# EAGLE library part E75-2G4M20S (library E75-2G4M20S)
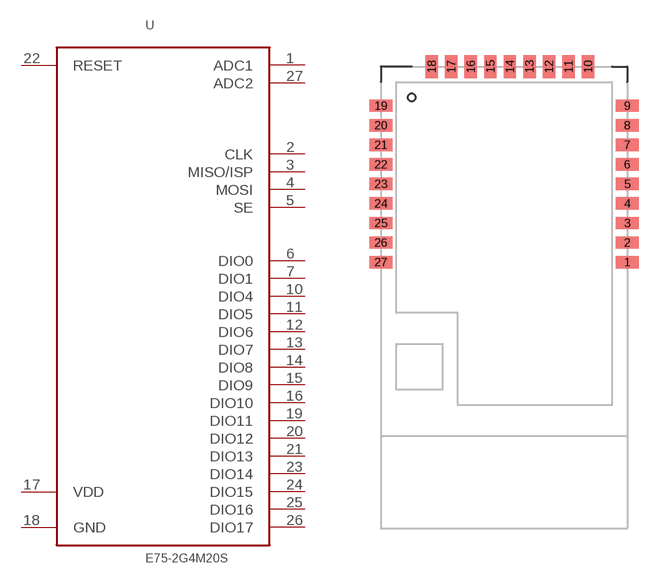
[diagram p0: symbol with the pads of E75-2G4M20S; footprint E75-2G4M20S]

Designator prefix U

## E75-2G4M20S  [E75-2G4M20S]
1  ADC1
2  CLK
3  MISO/ISP
4  MOSI
5  SE
6  DIO0
7  DIO1
10  DIO4
11  DIO5
12  DIO6
13  DIO7
14  DIO8
15  DIO9
16  DIO10
17  VDD
18  GND
19  DIO11
20  DIO12
21  DIO13
22  RESET
23  DIO14
24  DIO15
25  DIO16
26  DIO17
27  ADC2

## Footprint E75-2G4M20S (pad centres in mm)
smd 1.5 x 0.8: 1 8,2.3; 2 8,3.57; 3 8,4.84; 4 8,6.11; 5 8,7.38; 6 8,8.65; 7 8,9.92; 8 8,11.19; 9 8,12.46; 19 -8,12.46; 20 -8,11.19; 21 -8,9.92; 22 -8,8.65; 23 -8,7.38; 24 -8,6.11; 25 -8,4.84; 26 -8,3.57; 27 -8,2.3
smd 0.8 x 1.5: 10 5.46,15; 11 4.19,15; 12 2.92,15; 13 1.65,15; 14 0.38,15; 15 -0.89,15; 16 -2.16,15; 17 -3.43,15; 18 -4.7,15